# Altium footprint library BNO080.PcbLib: 2 footprints
Each footprint in its own frame and in the unit in brackets; x right, y up, seen from the top. Pads: shape width x height; smd on the part's side, far side on the other; paste and mask are expansions set on the pad; w line width, h text height; cw(c..) or ccw(c..) is an arc to the next point about the centre after c.
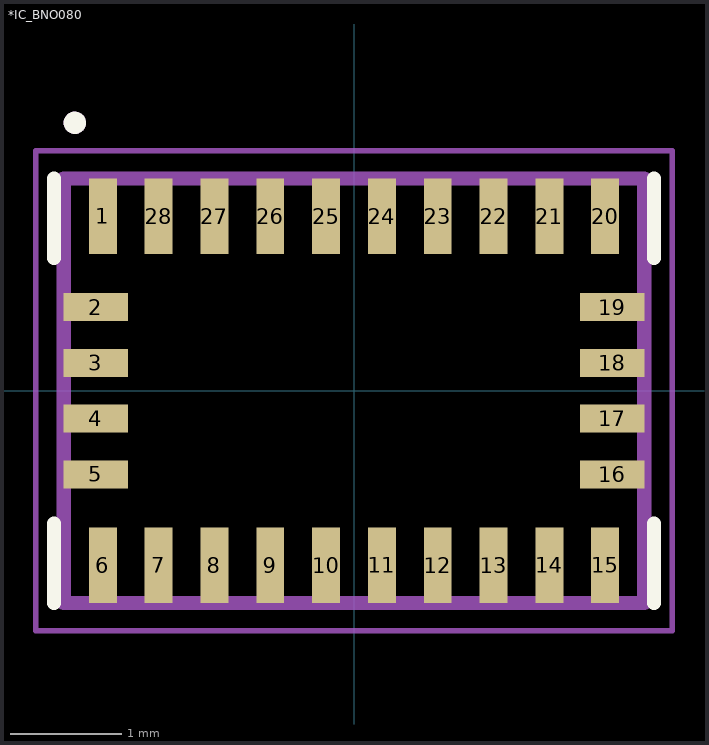
[diagram p0: the footprints below, top view; thin cyan lines are the x and y axes]

## *IC_BNO080 [mm]
pads (28):
  rect 0.25x0.675 smd: 1(-2.25,1.562) 6(-2.25,-1.562) 7(-1.75,-1.562) 8(-1.25,-1.562) 9(-0.75,-1.562) 10(-0.25,-1.562) 11(0.25,-1.562) 12(0.75,-1.562) 13(1.25,-1.562) 14(1.75,-1.562) 15(2.25,-1.562) 20(2.25,1.562) 21(1.75,1.562) 22(1.25,1.562) 23(0.75,1.562) 24(0.25,1.562) 25(-0.25,1.562) 26(-0.75,1.562) 27(-1.25,1.562) 28(-1.75,1.562)
  rect 0.575x0.25 smd: 2(-2.312,0.75) 3(-2.312,0.25) 4(-2.312,-0.25) 5(-2.312,-0.75) 16(2.312,-0.75) 17(2.312,-0.25) 18(2.312,0.25) 19(2.312,0.75)
Top Overlay:
  circle w0.1: c-2.5,2.4 r0.05
  lines w0.127: -2.689,-1.9 -2.689,-1.188 ; -2.689,1.188 -2.689,1.9 ; 2.689,-1.9 2.689,-1.188 ; 2.689,1.188 2.689,1.9
Mechanical 4:
  circle w0.1: c-2.5,2.4 r0.05
  circle w0.1: c-2.5,2.4 r0.05
  lines w0.127: -2.6,-1.9 2.6,-1.9 ; -2.6,-1.9 -2.6,1.9 ; -2.6,-1.9 2.6,-1.9 ; -2.6,-1.9 -2.6,1.9 ; -2.6,1.9 2.6,1.9 ; -2.6,1.9 2.6,1.9 ; 2.6,-1.9 2.6,1.9 ; 2.6,-1.9 2.6,1.9
Mechanical 16:
  lines w0.05: -2.85,-2.15 2.85,-2.15 2.85,2.15 -2.85,2.15 -2.85,-2.15
3D body: height 2.78, standoff -7.98, extent -2.667,1.905 -2.667,1.905

## PCBComponent_1 [mm]